# Altium schematic symbol library LED_RGB.SchLib: 1 symbol
Pins are listed as number, name and electrical type; pins without a type are passive.

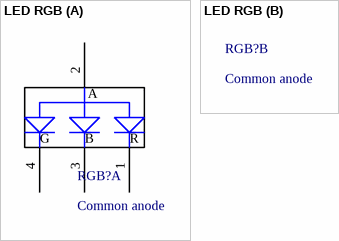
[diagram p0: symbol LED RGB]

## LED RGB
designator RGB?, comment Common anode
footprint LED_RGB1 (Common Anode)
part A pins: 1 Red Cathode, 2 Common Anode, 3 Blue Cathode, 4 Green Cathode
part A text: A; G; B; R